# Altium footprint library SOIC4P254_460X1016X385L100X125N.PcbLib: 1 footprints
Each footprint in its own frame and in the unit in brackets; x right, y up, seen from the top. Pads: shape width x height; smd on the part's side, far side on the other; paste and mask are expansions set on the pad; w line width, h text height; cw(c..) or ccw(c..) is an arc to the next point about the centre after c.
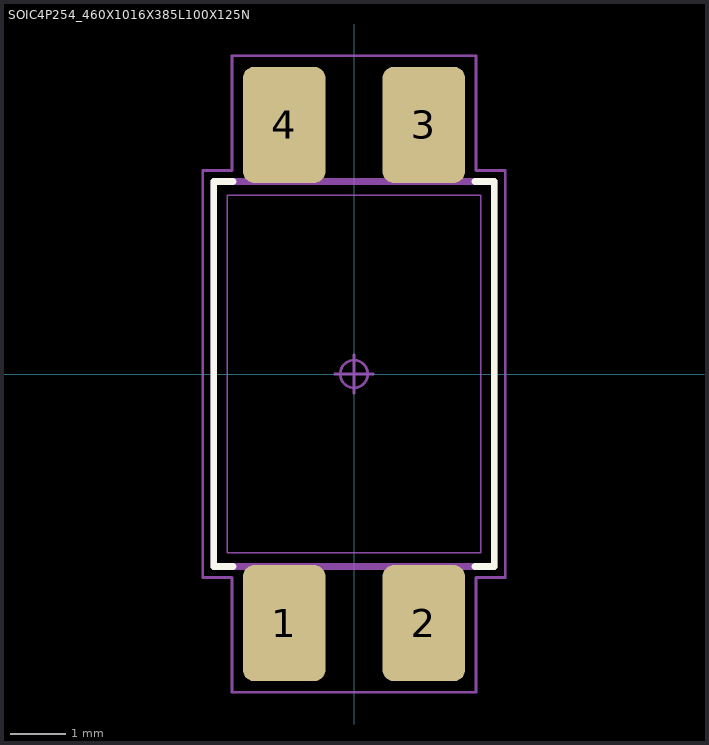
[diagram p0: the footprint, top view; thin cyan lines are the x and y axes]

## SOIC4P254_460X1016X385L100X125N [mm] "Small Outline IC (SOIC), 2.54 mm pitch; 4 pin, 4.60 mm L X 6.50 mm W X 3.85 mm H body"
height 3.85
pads (4):
  rrect27% 1.499x2.11 smd: 1(-1.27,-4.53) 2(1.27,-4.53) 3(1.27,4.53) 4(-1.27,4.53)
Top Overlay:
  lines w0.12: -2.2,-3.5 -2.55,-3.5 -2.55,3.5 -2.2,3.5 ; 2.2,-3.5 2.55,-3.5 2.55,3.5 2.2,3.5
Mechanical 3:
  lines w0.12: -2.55,-3.5 2.55,-3.5 2.55,3.5 -2.55,3.5 -2.55,-3.5
Mechanical 5:
  lines w0.025: -1.895,-5.08 -1.895,-4.08 -0.645,-4.08 -0.645,-5.08 -1.895,-5.08 ; -1.895,4.08 -1.895,5.08 -0.645,5.08 -0.645,4.08 -1.895,4.08 ; 0.645,-5.08 0.645,-4.08 1.895,-4.08 1.895,-5.08 0.645,-5.08 ; 0.645,4.08 0.645,5.08 1.895,5.08 1.895,4.08 0.645,4.08
Mechanical 7:
  circle w0.05: c0,0 r0.25
  lines w0.025: -2.3,-3.25 2.3,-3.25 2.3,3.25 -2.3,3.25 -2.3,-3.25
  lines w0.05: -0.35,0 0.35,0 ; 0,-0.35 0,0.35 ; -2.75,-3.7 -2.22,-3.7 -2.22,-5.785 2.22,-5.785 2.22,-3.7 2.75,-3.7 2.75,3.7 2.22,3.7 2.22,5.785 -2.22,5.785 -2.22,3.7 -2.75,3.7 -2.75,-3.7
3D body "SOIC4P254_460X1016X385L100X125.STEP": height 3.85, standoff 0, extent -2.3,-5.08 2.3,5.08